# Altium footprint library BEADC200X85X145L50N.PcbLib: 1 footprints
Each footprint in its own frame and in the unit in brackets; x right, y up, seen from the top. Pads: shape width x height; smd on the part's side, far side on the other; paste and mask are expansions set on the pad; w line width, h text height; cw(c..) or ccw(c..) is an arc to the next point about the centre after c.
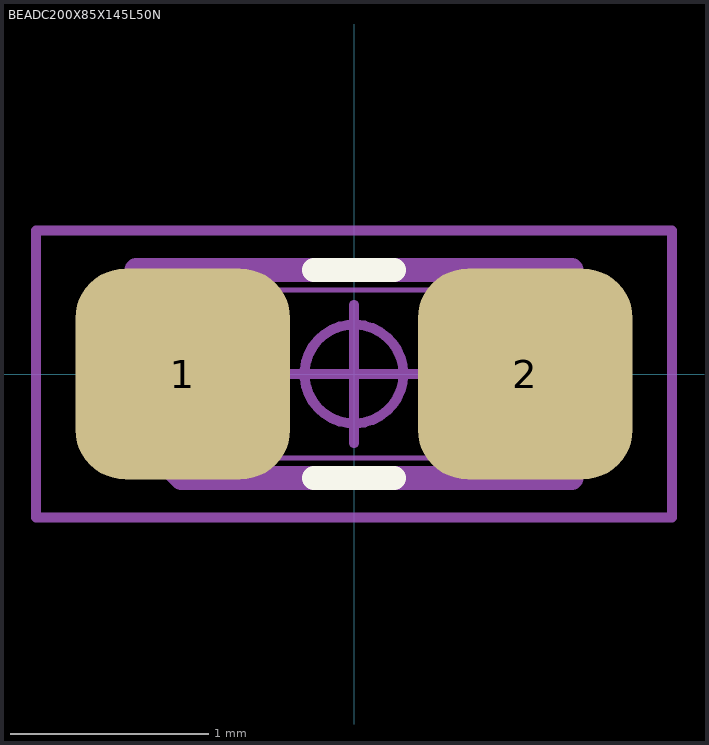
[diagram p0: the footprint, top view; thin cyan lines are the x and y axes]

## BEADC200X85X145L50N [mm] "Ferrite Bead, Chip; 2.00 mm L X 0.85 mm W X 1.45 mm H Body"
height 1.45
pads (2):
  rrect47% 1.085x1.065 smd: 1(-0.865,0) 2(0.865,0)
Top Overlay:
  lines w0.12: -0.202,-0.525 0.202,-0.525 ; -0.202,0.525 0.202,0.525
Mechanical 3:
  lines w0.12: -1.1,-0.297 -0.872,-0.525 1.1,-0.525 1.1,0.525 -1.1,0.525 -1.1,-0.297
Mechanical 5:
  lines w0.025: -1,-0.425 -0.5,-0.425 -0.5,0.425 -1,0.425 ; -1,-0.425 -1,0.425 ; -1,-0.425 -1,0.425 ; -1,-0.425 1,-0.425 ; -1,0.425 1,0.425 ; 1,-0.425 1,0.425 ; 1,-0.425 0.5,-0.425 0.5,0.425 1,0.425 ; 1,-0.425 1,0.425
Mechanical 7:
  circle w0.05: c0,0 r0.25
  lines w0.05: -0.35,0 0.35,0 ; 0,-0.35 0,0.35 ; -1.607,-0.725 -1.607,0.725 1.607,0.725 1.607,-0.725 -1.607,-0.725
Mechanical 9:
  text "'.Designator'" at -5.817,-0.271 h1.02
3D body "BEADC200X85X145L50.STEP": height 1.45, standoff 0, extent -1,-0.425 1,0.425
3D body: height 23.4, standoff -5, extent -1.607,-0.725 1.607,0.725